# EAGLE library part 649018227222 (library Wurth_Elektronik_Electromechanic_Wire_to_Board_Connectors_rev16a)
WR-MPC4-4.20mm Male Dual Row Angled Header with Mounting Pegs,18 pins=>Code : Con_WTB_MPC4_2_PCB_649018227222 <http://katalog.we-online.de/media/thumbs2/eican/thb_Con_WTB_MPC4_2_PCB_6490xx227222_pf2.jpg> Details see: http://katalog.we-online.de/en/em/649_0xx_227_222 Created 2014-06-06, Karrer Zheng 2014 (C) Würth Elektronik
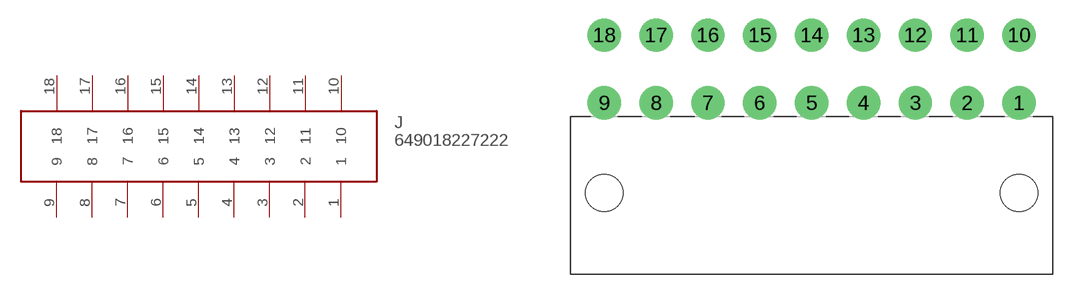
[diagram p308: symbol with the pads of 649018227222; footprint 649018227222]

Designator prefix J

## 649018227222  [649018227222]
1  1
2  2
3  3
4  4
5  5
6  6
7  7
8  8
9  9
10  10
11  11
12  12
13  13
14  14
15  15
16  16
17  17
18  18

## Footprint 649018227222 (pad centres in mm)
WR-MPC4-4.20mm Male Dual Row Angled Header with Mounting Pegs,18 pins
drill 1.8: 1 16.8,7.3; 2 12.6,7.3; 3 8.4,7.3; 4 4.2,7.3; 5 0,7.3; 6 -4.2,7.3; 7 -8.4,7.3; 8 -12.6,7.3; 9 -16.8,7.3; 10 16.8,12.8; 11 12.6,12.8; 12 8.4,12.8; 13 4.2,12.8; 14 0,12.8; 15 -4.2,12.8; 16 -8.4,12.8; 17 -12.6,12.8; 18 -16.8,12.8
hole 3 at -16.8,0
hole 3 at 16.8,0